# Altium footprint library Connectors_IDC.PcbLib: 7 footprints
Each footprint in its own frame and in the unit in brackets; x right, y up, seen from the top. Pads: shape width x height; smd on the part's side, far side on the other; paste and mask are expansions set on the pad; w line width, h text height; cw(c..) or ccw(c..) is an arc to the next point about the centre after c.
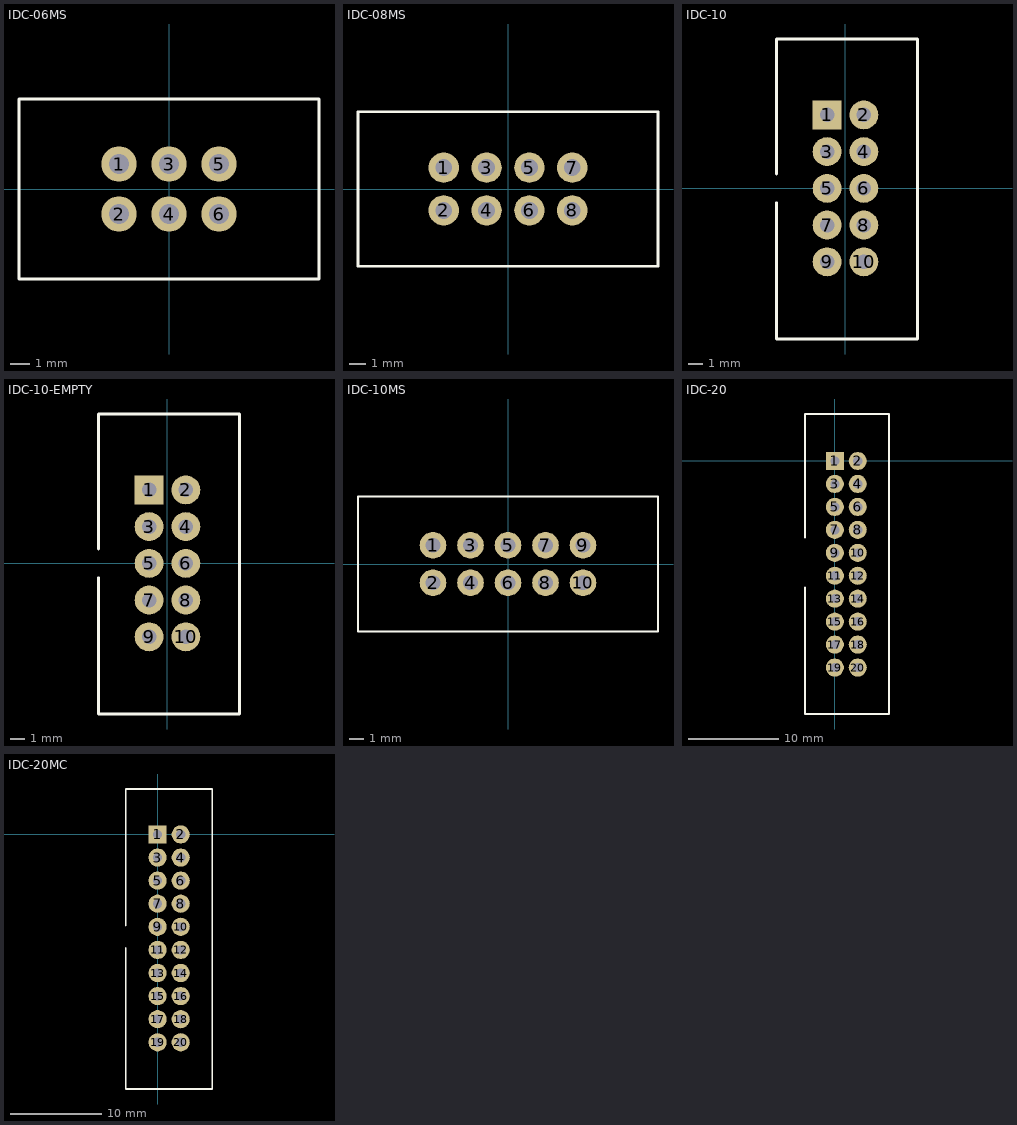
[diagram p0: the footprints below, top view; thin cyan lines are the x and y axes]

## IDC-06MS [mm]
pads (6):
  round 1.8 hole 1: 1(-2.54,1.27) 2(-2.54,-1.27) 3(0,1.27) 4(0,-1.27) 5(2.54,1.27) 6(2.54,-1.27)
Top Overlay:
  lines w0.15: -7.62,-4.572 -7.62,4.572 7.62,4.572 7.62,-4.572 -7.62,-4.572

## IDC-08MS [mm]
pads (8):
  round 1.8 hole 1: 1(-3.81,1.27) 2(-3.81,-1.27) 3(-1.27,1.27) 4(-1.27,-1.27) 5(1.27,1.27) 6(1.27,-1.27) 7(3.81,1.27) 8(3.81,-1.27)
Top Overlay:
  lines w0.15: -8.89,-4.572 8.89,-4.572 8.89,4.572 -8.89,4.572 -8.89,-4.572

## IDC-10 [mm] "IDC-10 Male Connector"
height 9
pads (10):
  rect 2x2 hole 1: 1(-1.25,5.075)
  round 2 hole 1: 2(1.29,5.075) 3(-1.25,2.535) 4(1.29,2.535) 5(-1.25,-0.005) 6(1.29,-0.005) 7(-1.25,-2.545) 8(1.29,-2.545) 9(-1.25,-5.085) 10(1.29,-5.085)
Top Overlay:
  lines w0.2: -4.75,-1 -4.75,-10.425 5,-10.425 5,10.325 -4.75,10.325 -4.75,1
3D body "User Library-BH-10__64BH-10.STEP": height 9.1, standoff -3, extent -4.53,-10.305 4.77,10.195

## IDC-10-EMPTY [mm] "IDC-10 Male Connector"
height 9
pads (10):
  rect 2x2 hole 1: 1(-1.25,5.075)
  round 2 hole 1: 2(1.29,5.075) 3(-1.25,2.535) 4(1.29,2.535) 5(-1.25,-0.005) 6(1.29,-0.005) 7(-1.25,-2.545) 8(1.29,-2.545) 9(-1.25,-5.085) 10(1.29,-5.085)
Top Overlay:
  lines w0.2: -4.75,-1 -4.75,-10.425 5,-10.425 5,10.325 -4.75,10.325 -4.75,1

## IDC-10MS [mm]
pads (10):
  round 1.8 hole 1: 1(-5.08,1.27) 2(-5.08,-1.27) 3(-2.54,1.27) 4(-2.54,-1.27) 5(0,1.27) 6(0,-1.27) 7(2.54,1.27) 8(2.54,-1.27) 9(5.08,1.27) 10(5.08,-1.27)
Top Overlay:
  lines w0.15: -10.16,-4.572 10.16,-4.572 10.16,4.572 -10.16,4.572 -10.16,-4.572
3D body "User Library-BH-10__64BH-10.STEP": height 9.1, standoff -3, extent -10.25,-4.75 10.25,4.55

## IDC-20 [mm] "IDC-20 Male Connector"
height 9
pads (20):
  rect 2x2 hole 1: 1(0,0)
  round 2 hole 1: 2(2.54,0) 3(0,-2.54) 4(2.54,-2.54) 5(0,-5.08) 6(2.54,-5.08) 7(0,-7.62) 8(2.54,-7.62) 9(0,-10.16) 10(2.54,-10.16) 11(0,-12.7) 12(2.54,-12.7) 13(0,-15.24) 14(2.54,-15.24) 15(0,-17.78) 16(2.54,-17.78) 17(0,-20.32) 18(2.54,-20.32) 19(0,-22.86) 20(2.54,-22.86)
Top Overlay:
  lines w0.2: -3.3,-14 -3.3,-28 6,-28 6,5.2 -3.3,5.2 -3.3,-8.5
3D body "User Library-BH-10__64BH-20.STEP": height 9.1, standoff -3, extent -3.3,-28 6,5.2

## IDC-20MC [mm] "IDC-20 Male Connector"
height 9
pads (20):
  rect 2x2 hole 1: 1(0,0)
  round 2 hole 1: 2(2.54,0) 3(0,-2.54) 4(2.54,-2.54) 5(0,-5.08) 6(2.54,-5.08) 7(0,-7.62) 8(2.54,-7.62) 9(0,-10.16) 10(2.54,-10.16) 11(0,-12.7) 12(2.54,-12.7) 13(0,-15.24) 14(2.54,-15.24) 15(0,-17.78) 16(2.54,-17.78) 17(0,-20.32) 18(2.54,-20.32) 19(0,-22.86) 20(2.54,-22.86)
Top Overlay:
  lines w0.2: -3.5,-12.5 -3.5,-28 6,-28 6,5 -3.5,5 -3.5,-10
3D body "User Library-BH-10__64BH-20.STEP": height 9.1, standoff -3, extent -3.28,-28.03 6.02,5.17